# EAGLE library part PICAXE-40X1 (library bt_pic)
PICAXE 40 pin BASIC microcontroller chip PICAXE is a neat entry-level microcontroller system that is relatively cheap to get started with. The chip is programmed with a simple serial connection and the BASIC development environment is free! PICAXE has some excellent educational applications and support, and is a great entryway into more complicated embedded systems. If you’re look for a place to start with microcontrollers, PICAXE is a great way to go! datasheet.pdf <http://www.rev-ed.co.uk/docs/picaxe_manual1.pdf>
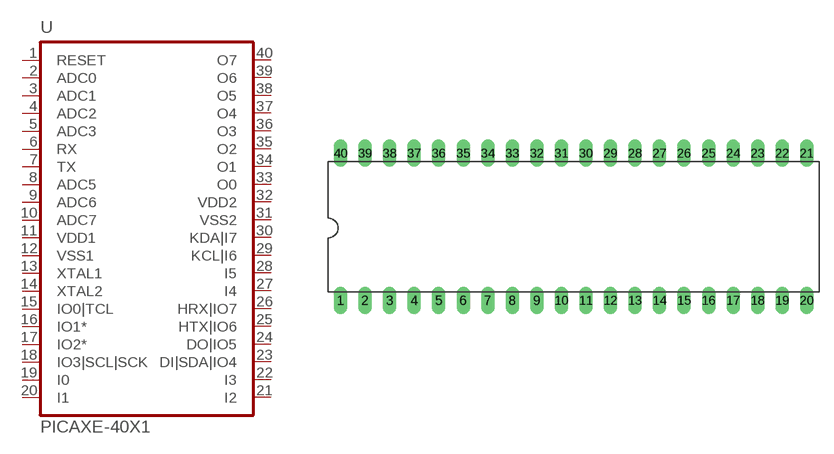
[diagram p6: symbol with the pads of DIL40; footprint DIL40]

Designator prefix U

## PICAXE-40X1  [DIL40]
1  RESET  in
2  ADC0  in
3  ADC1  in
4  ADC2  in
5  ADC3  in
6  RX  in
7  TX  out
8  ADC5  in
9  ADC6  in
10  ADC7  in
11  VDD1  pwr
12  VSS1  pwr
13  XTAL1  pas
14  XTAL2  pas
15  IO0|TCL
16  IO1*
17  IO2*
18  IO3|SCL|SCK
19  I0
20  I1  in
21  I2  in
22  I3  in
23  DI|SDA|IO4
24  DO|IO5
25  HTX|IO6
26  HRX|IO7
27  I4  in
28  I5  in
29  KCL|I6  in
30  KDA|I7  in
31  VSS2  pwr
32  VDD2  pwr
33  O0  out
34  O1  out
35  O2  out
36  O3  out
37  O4  out
38  O5  out
39  O6  out
40  O7  out

## Footprint DIL40 (pad centres in mm)
drill 0.813 pad 1.422 long: 1 -24.13,-7.62; 2 -21.59,-7.62; 3 -19.05,-7.62; 4 -16.51,-7.62; 5 -13.97,-7.62; 6 -11.43,-7.62; 7 -8.89,-7.62; 8 -6.35,-7.62; 9 -3.81,-7.62; 10 -1.27,-7.62; 11 1.27,-7.62; 12 3.81,-7.62; 13 6.35,-7.62; 14 8.89,-7.62; 15 11.43,-7.62; 16 13.97,-7.62; 17 16.51,-7.62; 18 19.05,-7.62; 19 21.59,-7.62; 20 24.13,-7.62; 21 24.13,7.62; 22 21.59,7.62; 23 19.05,7.62; 24 16.51,7.62; 25 13.97,7.62; 26 11.43,7.62; 27 8.89,7.62; 28 6.35,7.62; 29 3.81,7.62; 30 1.27,7.62; 31 -1.27,7.62; 32 -3.81,7.62; 33 -6.35,7.62; 34 -8.89,7.62; 35 -11.43,7.62; 36 -13.97,7.62; 37 -16.51,7.62; 38 -19.05,7.62; 39 -21.59,7.62; 40 -24.13,7.62